# Altium schematic symbol library RC0402.SchLib: 789 symbols (part 11 of 11)
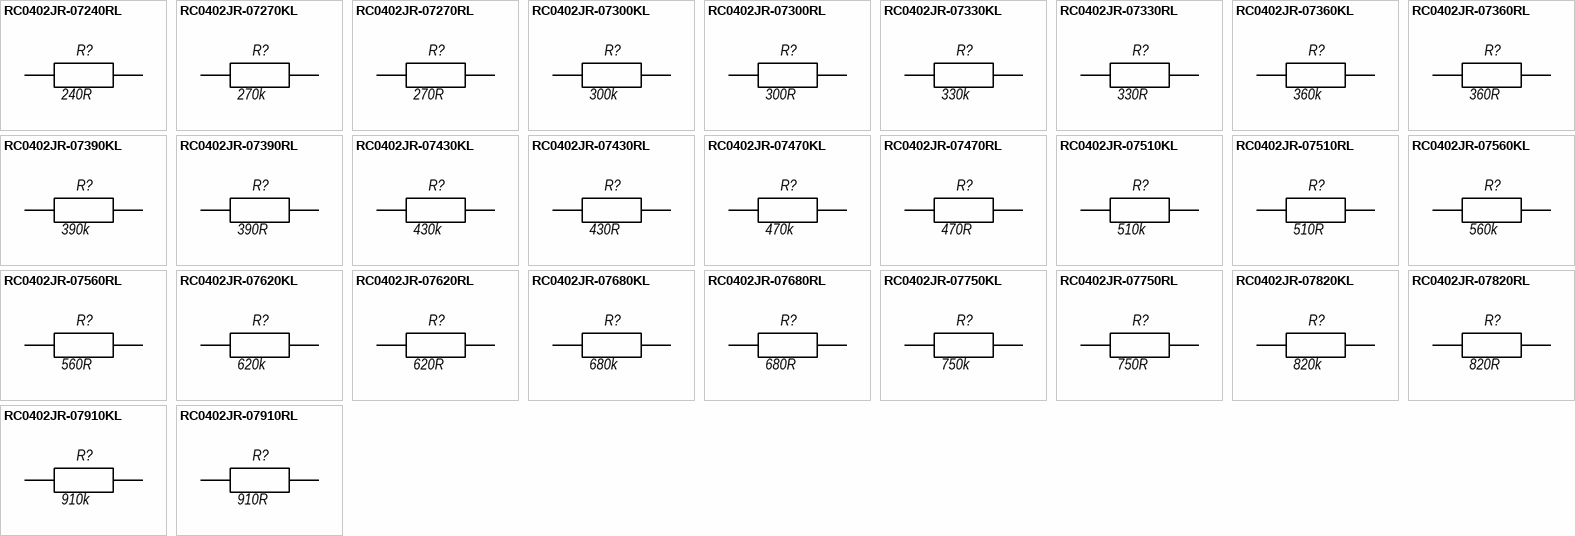
[diagram p29: symbols RC0402JR-07240RL to RC0402JR-07910RL]

## RC0402JR-07620KL
designator R?, comment 620k
RC0402JR-07620KL 0402 620 kOhm ±5% 1/16W 0402 SMD -55C...+155C; Manufacturer: Yageo; BOM2: 620 кОм ±5%, 1/16 Вт, SMD 0402, RC0402JR-07620KL; ValueBOM: RC0402JR-07620KL   Yageo                            (620 кОм ±5%, 1/16 Вт, SMD 0402, RC0402JR-07620KL); Value: 620k; Part Number: RC0402JR-07620KL; Package: 0402; BOM1: 620 kOhm ±5% 1/16W 0402 SMD
footprint RESC_0402_1005L (Chip Resistor, Body 1.1x0.5mm, IPC High Density)
footprint RESC_0402_1005M (Chip Resistor, Body 1.1x0.5mm, IPC Low Density)
footprint RESC_0402_1005N (Chip Resistor, Body 1.1x0.5mm, IPC Medium Density)
pins: 1, 2

## RC0402JR-07620RL
designator R?, comment 620R
RC0402JR-07620RL 0402 620 Ohm ±5% 1/16W 0402 SMD -55C...+155C; Manufacturer: Yageo; BOM2: 620 Ом ±5%, 1/16 Вт, SMD 0402, RC0402JR-07620RL; ValueBOM: RC0402JR-07620RL   Yageo                            (620 Ом ±5%, 1/16 Вт, SMD 0402, RC0402JR-07620RL); Value: 620R; Part Number: RC0402JR-07620RL; Package: 0402; BOM1: 620 Ohm ±5% 1/16W 0402 SMD
footprint RESC_0402_1005L (Chip Resistor, Body 1.1x0.5mm, IPC High Density)
footprint RESC_0402_1005M (Chip Resistor, Body 1.1x0.5mm, IPC Low Density)
footprint RESC_0402_1005N (Chip Resistor, Body 1.1x0.5mm, IPC Medium Density)
pins: 1, 2

## RC0402JR-07680KL
designator R?, comment 680k
RC0402JR-07680KL 0402 680 kOhm ±5% 1/16W 0402 SMD -55C...+155C; Manufacturer: Yageo; BOM2: 680 кОм ±5%, 1/16 Вт, SMD 0402, RC0402JR-07680KL; ValueBOM: RC0402JR-07680KL   Yageo                            (680 кОм ±5%, 1/16 Вт, SMD 0402, RC0402JR-07680KL); Value: 680k; Part Number: RC0402JR-07680KL; Package: 0402; BOM1: 680 kOhm ±5% 1/16W 0402 SMD
footprint RESC_0402_1005L (Chip Resistor, Body 1.1x0.5mm, IPC High Density)
footprint RESC_0402_1005M (Chip Resistor, Body 1.1x0.5mm, IPC Low Density)
footprint RESC_0402_1005N (Chip Resistor, Body 1.1x0.5mm, IPC Medium Density)
pins: 1, 2

## RC0402JR-07680RL
designator R?, comment 680R
RC0402JR-07680RL 0402 680 Ohm ±5% 1/16W 0402 SMD -55C...+155C; Manufacturer: Yageo; BOM2: 680 Ом ±5%, 1/16 Вт, SMD 0402, RC0402JR-07680RL; ValueBOM: RC0402JR-07680RL   Yageo                            (680 Ом ±5%, 1/16 Вт, SMD 0402, RC0402JR-07680RL); Value: 680R; Part Number: RC0402JR-07680RL; Package: 0402; BOM1: 680 Ohm ±5% 1/16W 0402 SMD
footprint RESC_0402_1005L (Chip Resistor, Body 1.1x0.5mm, IPC High Density)
footprint RESC_0402_1005M (Chip Resistor, Body 1.1x0.5mm, IPC Low Density)
footprint RESC_0402_1005N (Chip Resistor, Body 1.1x0.5mm, IPC Medium Density)
pins: 1, 2

## RC0402JR-07750KL
designator R?, comment 750k
RC0402JR-07750KL 0402 750 kOhm ±5% 1/16W 0402 SMD -55C...+155C; Manufacturer: Yageo; BOM2: 750 кОм ±5%, 1/16 Вт, SMD 0402, RC0402JR-07750KL; ValueBOM: RC0402JR-07750KL   Yageo                            (750 кОм ±5%, 1/16 Вт, SMD 0402, RC0402JR-07750KL); Value: 750k; Part Number: RC0402JR-07750KL; Package: 0402; BOM1: 750 kOhm ±5% 1/16W 0402 SMD
footprint RESC_0402_1005L (Chip Resistor, Body 1.1x0.5mm, IPC High Density)
footprint RESC_0402_1005M (Chip Resistor, Body 1.1x0.5mm, IPC Low Density)
footprint RESC_0402_1005N (Chip Resistor, Body 1.1x0.5mm, IPC Medium Density)
pins: 1, 2

## RC0402JR-07750RL
designator R?, comment 750R
RC0402JR-07750RL 0402 750 Ohm ±5% 1/16W 0402 SMD -55C...+155C; Manufacturer: Yageo; BOM2: 750 Ом ±5%, 1/16 Вт, SMD 0402, RC0402JR-07750RL; ValueBOM: RC0402JR-07750RL   Yageo                            (750 Ом ±5%, 1/16 Вт, SMD 0402, RC0402JR-07750RL); Value: 750R; Part Number: RC0402JR-07750RL; Package: 0402; BOM1: 750 Ohm ±5% 1/16W 0402 SMD
footprint RESC_0402_1005L (Chip Resistor, Body 1.1x0.5mm, IPC High Density)
footprint RESC_0402_1005M (Chip Resistor, Body 1.1x0.5mm, IPC Low Density)
footprint RESC_0402_1005N (Chip Resistor, Body 1.1x0.5mm, IPC Medium Density)
pins: 1, 2

## RC0402JR-07820KL
designator R?, comment 820k
RC0402JR-07820KL 0402 820 kOhm ±5% 1/16W 0402 SMD -55C...+155C; Manufacturer: Yageo; BOM2: 820 кОм ±5%, 1/16 Вт, SMD 0402, RC0402JR-07820KL; ValueBOM: RC0402JR-07820KL   Yageo                            (820 кОм ±5%, 1/16 Вт, SMD 0402, RC0402JR-07820KL); Value: 820k; Part Number: RC0402JR-07820KL; Package: 0402; BOM1: 820 kOhm ±5% 1/16W 0402 SMD
footprint RESC_0402_1005L (Chip Resistor, Body 1.1x0.5mm, IPC High Density)
footprint RESC_0402_1005M (Chip Resistor, Body 1.1x0.5mm, IPC Low Density)
footprint RESC_0402_1005N (Chip Resistor, Body 1.1x0.5mm, IPC Medium Density)
pins: 1, 2

## RC0402JR-07820RL
designator R?, comment 820R
RC0402JR-07820RL 0402 820 Ohm ±5% 1/16W 0402 SMD -55C...+155C; Manufacturer: Yageo; BOM2: 820 Ом ±5%, 1/16 Вт, SMD 0402, RC0402JR-07820RL; ValueBOM: RC0402JR-07820RL   Yageo                            (820 Ом ±5%, 1/16 Вт, SMD 0402, RC0402JR-07820RL); Value: 820R; Part Number: RC0402JR-07820RL; Package: 0402; BOM1: 820 Ohm ±5% 1/16W 0402 SMD
footprint RESC_0402_1005L (Chip Resistor, Body 1.1x0.5mm, IPC High Density)
footprint RESC_0402_1005M (Chip Resistor, Body 1.1x0.5mm, IPC Low Density)
footprint RESC_0402_1005N (Chip Resistor, Body 1.1x0.5mm, IPC Medium Density)
pins: 1, 2

## RC0402JR-07910KL
designator R?, comment 910k
RC0402JR-07910KL 0402 910 kOhm ±5% 1/16W 0402 SMD -55C...+155C; Manufacturer: Yageo; BOM2: 910 кОм ±5%, 1/16 Вт, SMD 0402, RC0402JR-07910KL; ValueBOM: RC0402JR-07910KL   Yageo                            (910 кОм ±5%, 1/16 Вт, SMD 0402, RC0402JR-07910KL); Value: 910k; Part Number: RC0402JR-07910KL; Package: 0402; BOM1: 910 kOhm ±5% 1/16W 0402 SMD
footprint RESC_0402_1005L (Chip Resistor, Body 1.1x0.5mm, IPC High Density)
footprint RESC_0402_1005M (Chip Resistor, Body 1.1x0.5mm, IPC Low Density)
footprint RESC_0402_1005N (Chip Resistor, Body 1.1x0.5mm, IPC Medium Density)
pins: 1, 2

## RC0402JR-07910RL
designator R?, comment 910R
RC0402JR-07910RL 0402 910 Ohm ±5% 1/16W 0402 SMD -55C...+155C; Manufacturer: Yageo; BOM2: 910 Ом ±5%, 1/16 Вт, SMD 0402, RC0402JR-07910RL; ValueBOM: RC0402JR-07910RL   Yageo                            (910 Ом ±5%, 1/16 Вт, SMD 0402, RC0402JR-07910RL); Value: 910R; Part Number: RC0402JR-07910RL; Package: 0402; BOM1: 910 Ohm ±5% 1/16W 0402 SMD
footprint RESC_0402_1005L (Chip Resistor, Body 1.1x0.5mm, IPC High Density)
footprint RESC_0402_1005M (Chip Resistor, Body 1.1x0.5mm, IPC Low Density)
footprint RESC_0402_1005N (Chip Resistor, Body 1.1x0.5mm, IPC Medium Density)
pins: 1, 2